# EAGLE library part USB (library matt)
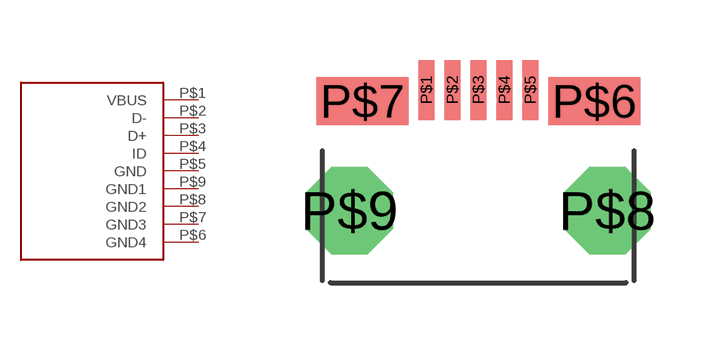
[diagram p2: symbol with the pads of USB; footprint USB]

Designator prefix -

## USB  [USB]
P$1  VBUS
P$2  D-
P$3  D+
P$4  ID
P$5  GND
P$6  GND4
P$7  GND3
P$8  GND2
P$9  GND1

## Footprint USB (pad centres in mm)
smd 0.4 x 1.5: P$1 -1.3,4.125; P$2 -0.65,4.125; P$3 0,4.125; P$4 0.65,4.125; P$5 1.3,4.125
smd 2.3 x 1.2: P$6 2.9,3.85; P$7 -2.9,3.85
drill 1.1 pad 2.184 octagon: P$8 3.225,1.1; P$9 -3.225,1.1